# Altium footprint library Transistor.PcbLib: 7 footprints
Each footprint in its own frame and in the unit in brackets; x right, y up, seen from the top. Pads: shape width x height; smd on the part's side, far side on the other; paste and mask are expansions set on the pad; w line width, h text height; cw(c..) or ccw(c..) is an arc to the next point about the centre after c.
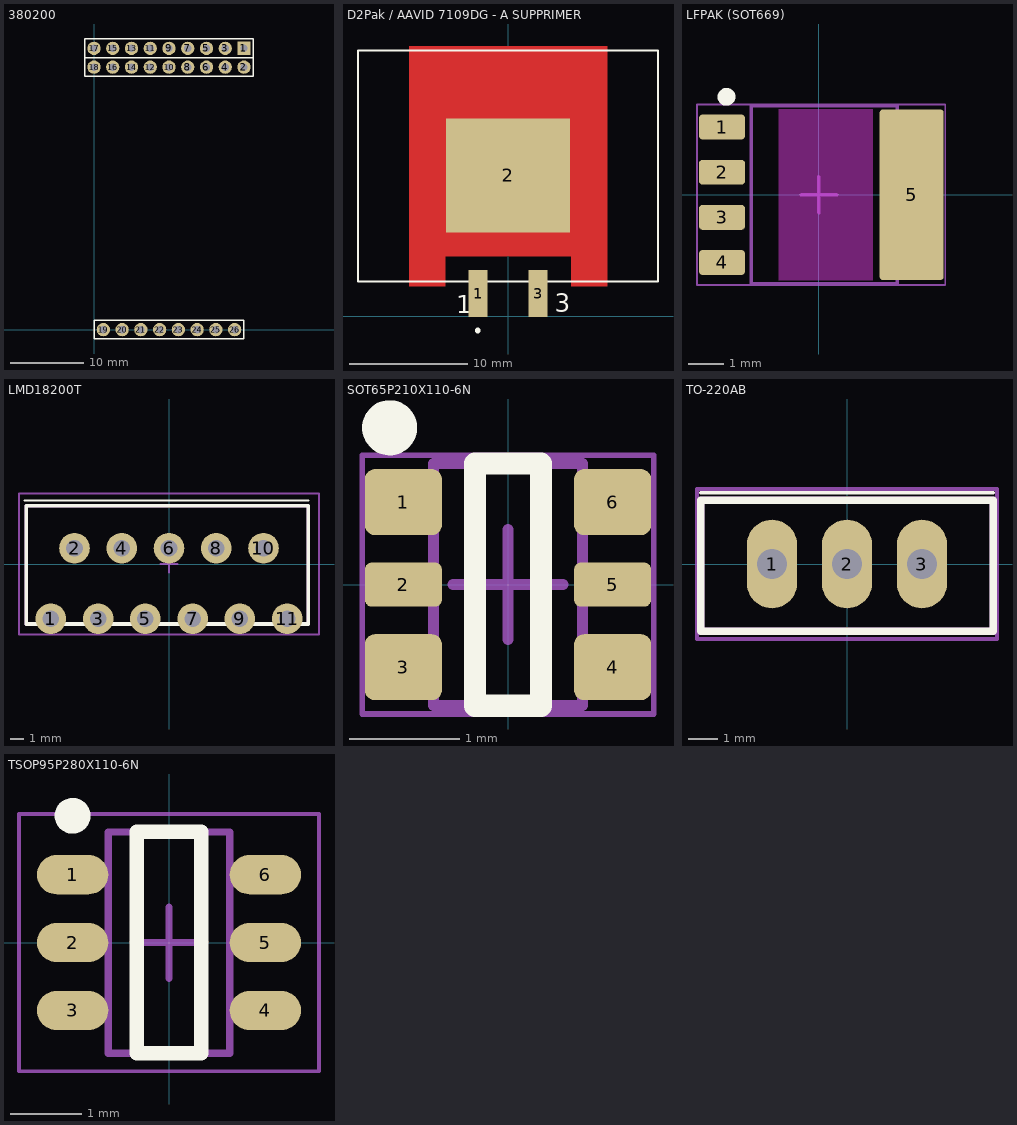
[diagram p0: the footprints below, top view; thin cyan lines are the x and y axes]

## 380200 [mm] "MAXON"
pads (26):
  rect 1.8x1.8 hole 1: 1(20.32,38.1)
  round 1.8 hole 1: 2(20.32,35.56) 3(17.78,38.1) 4(17.78,35.56) 5(15.24,38.1) 6(15.24,35.56) 7(12.7,38.1) 8(12.7,35.56) 9(10.16,38.1) 10(10.16,35.56) 11(7.62,38.1) 12(7.62,35.56) 13(5.08,38.1) 14(5.08,35.56) 15(2.54,38.1) 16(2.54,35.56) 17(0,38.1) 18(0,35.56) 19(1.27,0) 20(3.81,0) 21(6.35,0) 22(8.89,0) 23(11.43,0) 24(13.97,0) 25(16.51,0) 26(19.05,0)
Top Overlay:
  lines w0.2: -1.27,36.83 -1.27,34.29 21.59,34.29 21.59,36.83 ; -1.27,36.83 21.59,36.83 ; -1.27,36.83 21.59,36.83 ; -1.27,36.83 -1.27,39.37 21.59,39.37 21.59,36.83 ; 0,-1.27 20.32,-1.27 20.32,1.27 0,1.27 0,-1.27

## D2Pak / AAVID 7109DG - A SUPPRIMER [mm] "D2-PAK; 3 Leads (1 Cropped); Body 15.2 (inc. leads) x 10.9 mm (LxW max)"
height 4.83
pads (3):
  rect 1.61x4 smd: 1(-2.54,1.905) 3(2.54,1.905)
  rect 10.49x9.68 smd: 2(0,11.905)
Top Layer:
  region: -5.334,5.08 5.334,5.08 5.334,2.54 8.382,2.54 8.382,22.86 -8.382,22.86 -8.382,2.54 -5.334,2.54
Top Overlay:
  circle w0.25: c-2.563,-1.219 r0.125
  lines w0.2: -12.7,2.921 -12.7,22.479 12.7,22.479 12.7,2.921 -12.7,2.921
  text "1" at -4.369,0.254 h1.5
  text "3" at 3.962,0.356 h1.5
3D body: height 11.43, standoff 0, extent 7.621,2.922 12.699,22.478
3D body: height 11.43, standoff 0, extent -12.699,2.922 -7.621,22.478
3D body "D2PACK.step": height 4.6, standoff -0.01, extent -5.2,0.102 5.2,15.952

## LFPAK (SOT669) [mm] "SOT669 (wave soldering) https://goo.gl/6IFySL"
height 1.2
pads (5):
  rrect30% 1.3x0.7 smd: 1(-2.725,1.905) 2(-2.725,0.635) 3(-2.725,-0.635) 4(-2.725,-1.905)
  rrect10% 1.8x4.8 smd paste-0.1: 5(2.61,0)
Top Overlay:
  circle w0.25: c-2.6,2.755 r0.125
Keep-Out Layer:
  rectangle: -1.143,-2.413 1.524,2.413
Mechanical 13:
  lines w0.1: -1.9,-2.5 2.2,-2.5 2.2,2.5 -1.9,2.5 -1.9,-2.5
Mechanical 15:
  lines w0.05: -3.429,-2.54 3.556,-2.54 3.556,2.54 -3.429,2.54 -3.429,-2.54
  lines w0.1: -0.5,0 0.5,0 ; 0,-0.5 0,0.5
3D body: height 1.2, standoff 0.25, extent -1.9,-2.5 2.2,2.5

## LMD18200T [mm]
pads (11):
  round 2.2 hole 1.2: 1(-8.5,-3.937) 2(-6.8,1.143) 3(-5.1,-3.937) 4(-3.4,1.143) 5(-1.7,-3.937) 6(0,1.143) 7(1.7,-3.937) 8(3.4,1.143) 9(5.1,-3.937) 10(6.8,1.143) 11(8.5,-3.937)
Top Overlay:
  lines w0.127: -10.414,4.572 10.033,4.572
  lines w0.254: -10.287,-4.318 10.033,-4.318 10.033,4.191 -10.287,4.191 -10.287,-4.318
Mechanical 13:
  lines w0.254: -10.287,-4.318 -10.287,4.191 10.033,4.191 10.033,-4.318 -10.287,-4.318
Mechanical 15:
  lines w0.127: -0.635,0 0.635,0 ; 0,-0.635 0,0.635 ; -10.795,-5.08 -10.795,5.08 10.795,5.08 10.795,-5.08 -10.795,-5.08
Mechanical 17:
  text ".Designator" at -5.08,-1.905 h2
3D body "SW3dPS-LMD18200T H Bridge.STEP": height 16.79, standoff -5.05, extent -10.325,-4.302 10.071,4.191

## SOT65P210X110-6N [mm] "SOT23, 6-Leads, Body 2,00x2,10mm, Pitch 0,65mm, IPC Medium Density"
height 1.1
pads (6):
  rrect30% 0.7x0.6 smd: 1(-0.95,0.75) 3(-0.95,-0.75) 4(0.95,-0.75) 6(0.95,0.75)
  rrect30% 0.7x0.4 smd: 2(-0.95,0) 5(0.95,0)
Top Overlay:
  circle w0.25: c-1.075,1.425 r0.125
  lines w0.2: -0.3,-1.1 0.3,-1.1 0.3,1.1 -0.3,1.1 -0.3,-1.1
Mechanical 13:
  lines w0.1: -0.675,-1.1 -0.675,1.1 0.675,1.1 0.675,-1.1 -0.675,-1.1
Mechanical 15:
  lines w0.05: -1.325,-1.175 1.325,-1.175 1.325,1.175 -1.325,1.175 -1.325,-1.175
  lines w0.1: -0.5,0 0.5,0 ; 0,-0.5 0,0.5
3D body "SC-88.stp": height 1.1, standoff 0, extent -1.2,-1.1 1.2,1.1

## TO-220AB [mm]
height 19.2
pads (3):
  oval 1.7x3 hole 1: 1(-2.54,0) 2(0,0) 3(2.54,0)
Top Overlay:
  lines w0.127: -4.953,2.413 4.953,2.413
  lines w0.254: -4.953,-2.286 4.953,-2.286 4.953,2.159 -4.953,2.159 -4.953,-2.286
Mechanical 13:
  lines w0.254: -4.953,-2.286 -4.953,2.159 4.953,2.159 4.953,-2.286 -4.953,-2.286
Mechanical 15:
  lines w0.127: -0.635,0 0.635,0 ; 0,-0.635 0,0.635 ; -5.08,-2.54 -5.08,2.54 5.08,2.54 5.08,-2.54 -5.08,-2.54
Mechanical 17:
  text ".Designator" at -5.207,2.159 h2
3D body "User Library-TO-220-1.STEP": height 18.8, standoff -9.98, extent -4.95,-2.087 4.95,2.413

## TSOP95P280X110-6N [mm] "TSOP, 6-Leads, Body 3,03x1,63mm, Pitch 0,95mm, IPC Medium Density"
height 1.1
pads (6):
  oval 1x0.55 smd: 1(-1.35,0.95) 2(-1.35,0) 3(-1.35,-0.95) 4(1.35,-0.95) 5(1.35,0) 6(1.35,0.95)
Top Overlay:
  circle w0.25: c-1.35,1.775 r0.125
  lines w0.2: -0.45,-1.55 0.45,-1.55 0.45,1.55 -0.45,1.55 -0.45,-1.55
Mechanical 13:
  lines w0.1: -0.85,-1.55 0.85,-1.55 0.85,1.55 -0.85,1.55 -0.85,-1.55
Mechanical 15:
  lines w0.05: -2.1,-1.8 2.1,-1.8 2.1,1.8 -2.1,1.8 -2.1,-1.8
  lines w0.1: -0.5,0 0.5,0 ; 0,-0.5 0,0.5
3D body: height 1.1, standoff 0.01, extent -0.85,-1.55 0.85,1.55